# Altium footprint library 749010310.PcbLib: 1 footprints
Each footprint in its own frame and in the unit in brackets; x right, y up, seen from the top. Pads: shape width x height; smd on the part's side, far side on the other; paste and mask are expansions set on the pad; w line width, h text height; cw(c..) or ccw(c..) is an arc to the next point about the centre after c.
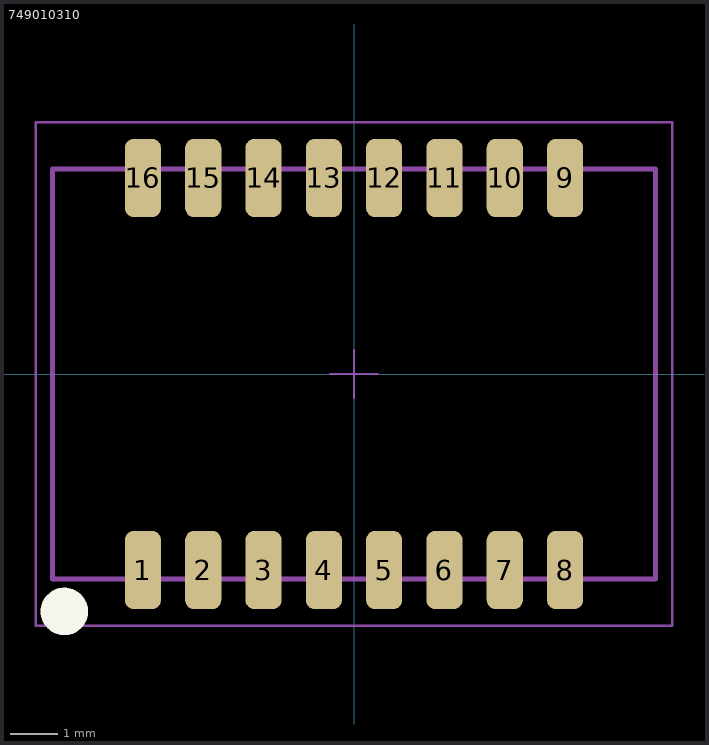
[diagram p0: the footprint, top view; thin cyan lines are the x and y axes]

## 749010310 [mil]
pads (16):
  rrect50% 30x65 smd mask+1.97: 1(-175,-162.5) 2(-125,-162.5) 3(-75,-162.5) 4(-25,-162.5) 5(25,-162.5) 6(75,-162.5) 7(125,-162.5) 8(175,-162.5) 9(175,162.5) 10(125,162.5) 11(75,162.5) 12(25,162.5) 13(-25,162.5) 14(-75,162.5) 15(-125,162.5) 16(-175,162.5)
Top Overlay:
  circle w19.68: c-240.16,-196.85 r9.84
Top Assembly:
  lines w3.94: -250,-170 -250,170 250,170 250,-170 -250,-170
Top Courtyard:
  lines w1.97: -19.68,0 19.68,0 ; 0,-19.68 0,19.68 ; -263.78,-208.66 -263.78,208.66 263.78,208.66 263.78,-208.66 -263.78,-208.66
3D body "Download_WE-LANAQ_749012310_STP (rev1).stp": height 157.48, standoff 0, extent -250.01,-170.67 249.99,170.66